# Altium footprint library Others.PcbLib: 32 footprints (part 1 of 2)
Each footprint in its own frame and in the unit in brackets; x right, y up, seen from the top. Pads: shape width x height; smd on the part's side, far side on the other; paste and mask are expansions set on the pad; w line width, h text height; cw(c..) or ccw(c..) is an arc to the next point about the centre after c.
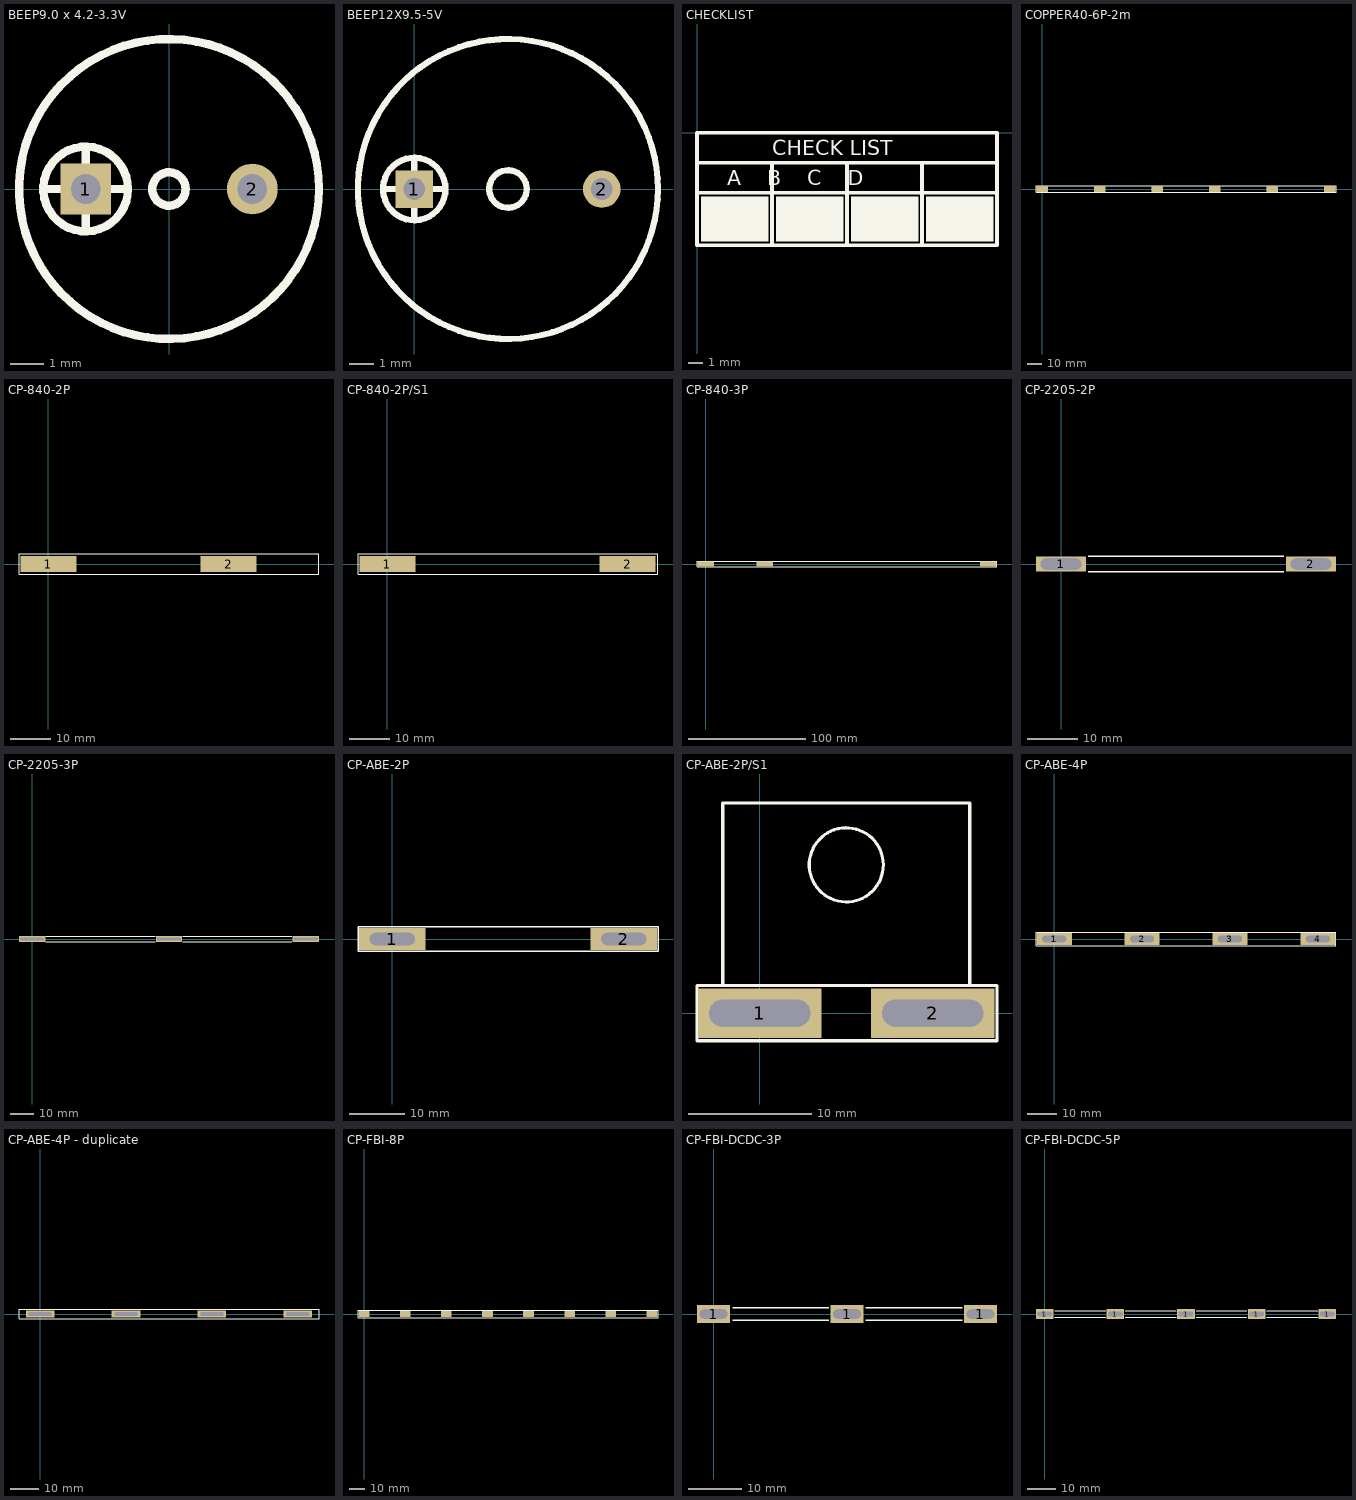
[diagram p0: the footprints below, top view; thin cyan lines are the x and y axes]

## BEEP9.0 x 4.2-3.3V [mil]
pads (2):
  rect 60x60 hole 35: 1(-98.43,0)
  round 60 hole 35: 2(98.43,0)
Top Overlay:
  circle w10: c-98.43,0 r50
  circle w10: c0,0 r19.68
  circle w10: c0,0 r177.17
  lines w10: -148.43,0 -48.43,0 ; -98.43,-50 -98.43,50
3D body: height 165.35, standoff 0, extent -176,-176 177.63,176.93

## BEEP12X9.5-5V [mil]
pads (2):
  rect 60x60 hole 35: 1(0,0)
  round 60 hole 35: 2(300,0)
Top Overlay:
  circle w10: c150,0 r240
  circle w10: c150,0 r30
  circle w10: c0,0 r50
  lines w10: -50,0 50,0 ; 0,-50 0,50
3D body "SW3dPS-WST-1203UX.STEP": height 379.92, standoff -177.17, extent -219.21,-236.44 389.21,236

## CHECKLIST [mm]
Top Overlay:
  rectangle: 15.494,-7.366 20.066,-4.318
  rectangle: 10.414,-7.366 14.986,-4.318
  rectangle: 5.334,-7.366 9.906,-4.318
  rectangle: 0.254,-7.366 4.826,-4.318
  lines w0.254: 0,-4.064 20.32,-4.064 ; 0,-2.032 20.32,-2.032 ; 5.08,-7.62 5.08,-2.032 ; 10.16,-7.62 10.16,-2.032 ; 15.24,-7.62 15.24,-2.032 ; 0,-7.62 0,0 20.32,0 20.32,-7.62 0,-7.62
  text "A    B    C    D" at 2.032,-3.556 h1.02
  text "CHECK LIST" at 5.08,-1.524 h1.02

## COPPER40-6P-2m [mm]
pads (6):
  rect 8x4 all layers, no hole: 1(0,0) 2(40,0) 3(80,0) 4(120,0) 5(160,0) 6(200,0)
Top Overlay:
  lines w0.254: -4.5,-2.3 -4.5,2.3 204.5,2.3 204.5,-2.3 -4.5,-2.3
Mechanical 1:
  lines w0.254: -3.5,-1.25 3.5,-1.25 3.5,1.25 -3.5,1.25 -3.5,-1.25 ; 36.5,-1.25 43.5,-1.25 43.5,1.25 36.5,1.25 36.5,-1.25 ; 76.5,-1.25 83.5,-1.25 83.5,1.25 76.5,1.25 76.5,-1.25 ; 116.5,-1.25 123.5,-1.25 123.5,1.25 116.5,1.25 116.5,-1.25 ; 156.5,-1.25 163.5,-1.25 163.5,1.25 156.5,1.25 156.5,-1.25 ; 196.5,-1.25 203.5,-1.25 203.5,1.25 196.5,1.25 196.5,-1.25

## CP-840-2P [mm] "COPPER840-2P"
pads (2):
  rect 14x4 all layers, no hole: 1(0,0) 2(45,0)
Top Overlay:
  lines w0.254: -7.366,-2.54 -7.366,2.54 67.564,2.54 67.564,-2.54 -7.366,-2.54
Mechanical 1:
  lines w0.254: -6,-1.016 6,-1.016 6,0.762 -6,0.762 -6,-1.016 ; 39,-1.016 51,-1.016 51,0.762 39,0.762 39,-1.016

## CP-840-2P/S1 [mm] "COPPER840-1S"
pads (2):
  rect 14x4 all layers, no hole: 1(0,0) 2(60,0)
Top Overlay:
  lines w0.254: -7.366,-2.54 -7.366,2.54 67.564,2.54 67.564,-2.54 -7.366,-2.54
Mechanical 1:
  lines w0.254: -6,-1.016 6,-1.016 6,0.762 -6,0.762 -6,-1.016 ; 54,-1.016 66,-1.016 66,0.762 54,0.762 54,-1.016

## CP-840-3P [mm] "COPPER840-3P"
pads (3):
  rect 14x4 all layers, no hole: 1(0,0) 2(50,0) 3(240,0)
Top Overlay:
  lines w0.254: -7.366,-2.54 -7.366,2.54 247.5,2.54 247.5,-2.54 -7.366,-2.54
Mechanical 1:
  lines w0.254: -6,-1.016 6,-1.016 6,0.762 -6,0.762 -6,-1.016 ; 44,-1.016 44,0.762 56,0.762 56,-1.016 44,-1.016 ; 234,-1.016 234,0.762 246,0.762 246,-1.016 234,-1.016

## CP-2205-2P [mm]
pads (2):
  rect 10x3 hole 2.2 slot 8.2 at 0 deg: 1(0,0) 2(50,0)
Top Overlay:
  lines w0.254: 5.461,-1.524 44.577,-1.524 ; 5.461,1.524 44.577,1.524
3D body: height 1, standoff -3, extent 47.206,-1.016 52.921,1.016
3D body: height 1, standoff -3, extent -2.794,-1.016 2.921,1.016
3D body: height 20, standoff 1, extent -2.794,-1.016 52.959,1.016

## CP-2205-3P [mm]
pads (3):
  rect 11.2x2.4 hole 1.2 slot 10.2 at 0 deg: 1(0,0) 2(58,0) 3(116,0)
Top Overlay:
  lines w0.254: 5.842,-1.143 52.07,-1.143 ; 5.842,1.143 52.07,1.143 ; 63.881,-1.143 110.109,-1.143 ; 63.881,1.143 110.109,1.143
3D body: height 20, standoff 1, extent -4.064,-1.016 120.142,1.016
3D body: height 1, standoff -3, extent 111.76,-0.508 120.269,0.508
3D body: height 1, standoff -3, extent 53.76,-0.508 62.269,0.508
3D body: height 1, standoff -3, extent -4.24,-0.508 4.269,0.508

## CP-ABE-2P [mm] "COPPER_ABE-2S"
pads (2):
  rect 12x4 hole 2.2 slot 8.2 at 0 deg: 1(0,0) 2(42,0)
Top Overlay:
  lines w0.254: -6.22,-2.24 48.2,-2.24 48.2,2.24 -6.22,2.24 -6.22,-2.24

## CP-ABE-2P/S1 [mm] "COPPER_ABE-1S"
pads (2):
  rect 10x4 hole 2.2 slot 8.2 at 0 deg: 1(0,0) 2(14,0)
Top Overlay:
  circle w0.254: c7,12 r3
  lines w0.254: -3,2.24 -3,17 17,17 17,2.24 ; -5.08,-2.24 -5.08,2.24 19.2,2.24 19.2,-2.24 -5.08,-2.24

## CP-ABE-4P [mm] "COPPER_ABE-4S"
pads (4):
  rect 12x4 hole 2.2 slot 8.2 at 0 deg: 1(0,0) 2(30,0) 3(60,0) 4(90,0)
Top Overlay:
  lines w0.254: -6.22,-2.24 96.2,-2.24 96.2,2.24 -6.22,2.24 -6.22,-2.24

## CP-ABE-4P - duplicate [mm] "COPPER_ABE-4S"
pads (4):
  rect 10x2.4 hole 1.2 slot 8.2 at 0 deg: 1(0,0) 2(30,0) 3(60,0) 4(90,0)
Top Overlay:
  lines w0.254: -7.366,-1.651 97.409,-1.651 97.409,1.651 -7.366,1.651 -7.366,-1.651
3D body: height 1, standoff -3, extent 86.63,-1.016 93.456,1.016
3D body: height 1, standoff -3, extent 26.813,-1.016 33.639,1.016
3D body: height 1, standoff -3, extent -3.286,-1.016 3.54,1.016
3D body: height 1, standoff -3, extent 56.658,-1.016 63.484,1.016
3D body: height 20, standoff 1, extent -4.953,-1.016 95.123,1.016

## CP-FBI-8P [mm] "COPPERFBI-8P-2.0mm"
pads (8):
  rect 7x4 all layers, no hole: 1(0,0) 2(27,0) 3(54,0) 4(81,0) 5(108,0) 6(135,0) 7(162,0) 8(189,0)
Top Overlay:
  lines w0.254: -4,-2.54 -4,2.54 193,2.54 193,-2.54 -4,-2.54
Mechanical 1:
  lines w0.254: -2.54,-1.15 -2.54,1.15 2.54,1.15 2.54,-1.15 -2.54,-1.15 ; 24.46,-1.15 24.46,1.15 29.54,1.15 29.54,-1.15 24.46,-1.15 ; 51.46,-1.15 51.46,1.15 56.54,1.15 56.54,-1.15 51.46,-1.15 ; 78.46,-1.15 78.46,1.15 83.54,1.15 83.54,-1.15 78.46,-1.15 ; 105.46,-1.15 105.46,1.15 110.54,1.15 110.54,-1.15 105.46,-1.15 ; 132.46,-1.15 132.46,1.15 137.54,1.15 137.54,-1.15 132.46,-1.15 ; 159.46,-1.15 159.46,1.15 164.54,1.15 164.54,-1.15 159.46,-1.15 ; 186.46,-1.15 186.46,1.15 191.54,1.15 191.54,-1.15 186.46,-1.15

## CP-FBI-DCDC-3P [mm]
pads (3):
  rect 6.2x3.4 hole 1.7 slot 5.2 at 0 deg: 1(0,0) 1(25,0) 1(50,0)
Top Overlay:
  lines w0.254: 28.556,-1.143 46.59,-1.143 ; 28.556,1.143 46.59,1.143 ; 3.556,-1.143 21.59,-1.143 3.556,-1.143 ; 3.556,1.143 21.59,1.143 3.556,1.143
3D body: height 20, standoff 1, extent -2.032,-0.762 51.943,0.762
3D body: height 1, standoff -3, extent -2.032,-0.762 2.032,0.762
3D body: height 1, standoff -3, extent 22.968,-0.762 27.032,0.762
3D body: height 1, standoff -3, extent 47.968,-0.762 52.032,0.762

## CP-FBI-DCDC-5P [mm]
pads (5):
  rect 6.2x3.4 hole 1.7 slot 5.2 at 0 deg: 1(0,0) 1(25,0) 1(50,0) 1(75,0) 1(100,0)
Top Overlay:
  lines w0.254: 28.556,-1.143 46.59,-1.143 ; 28.556,1.143 46.59,1.143 ; 53.556,-1.143 71.59,-1.143 ; 53.556,1.143 71.59,1.143 ; 78.556,-1.143 96.59,-1.143 ; 78.556,1.143 96.59,1.143 ; 3.556,-1.143 21.59,-1.143 3.556,-1.143 ; 3.556,1.143 21.59,1.143 3.556,1.143
3D body: height 20, standoff 1, extent -2.032,-0.762 101.981,0.762
3D body: height 1, standoff -3, extent -2.032,-0.762 2.032,0.762
3D body: height 1, standoff -3, extent 22.968,-0.762 27.032,0.762
3D body: height 1, standoff -3, extent 47.968,-0.762 52.032,0.762
3D body: height 1, standoff -3, extent 72.968,-0.762 77.032,0.762
3D body: height 1, standoff -3, extent 97.968,-0.762 102.032,0.762